# EAGLE library part BGM13P22F512GA-V2 (library wireless_connectivity)
EFR32BG13 Bluetooth 5.0 Module, 512kB Flash, +8dbm
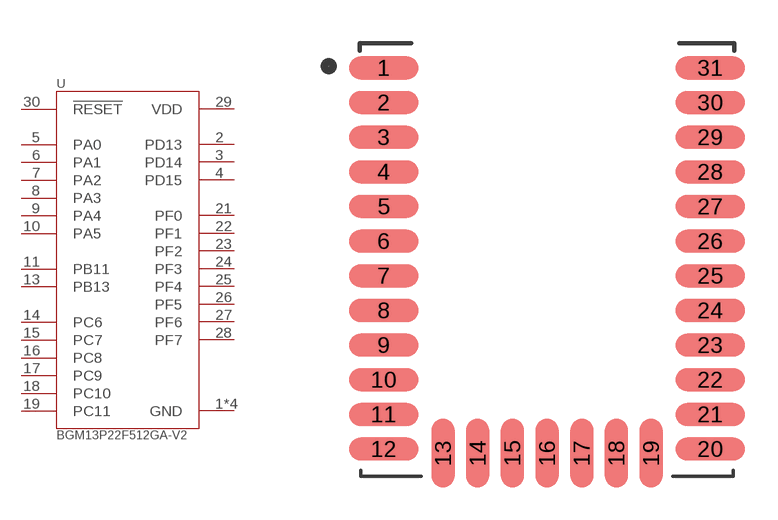
[diagram p1: symbol with the pads of MODULE_BGM13P22F512GA-V2; footprint MODULE_BGM13P22F512GA-V2]

Designator prefix U

## BGM13P22F512GA-V2 (MF: Silicon Labs; MP: BGM13P22F512GA-V2; VALUE: BGM13P22F512GA-V2)  [MODULE_BGM13P22F512GA-V2]
1  GND  pwr
2  PD13
3  PD14
4  PD15
5  PA0
6  PA1
7  PA2
8  PA3
9  PA4
10  PA5
11  PB11
12  GND  pwr
13  PB13
14  PC6
15  PC7
16  PC8
17  PC9
18  PC10
19  PC11
20  GND  pwr
21  PF0
22  PF1
23  PF2
24  PF3
25  PF4
26  PF5
27  PF6
28  PF7
29  VDD  pwr
30  !RESET  in
31  GND  pwr

## Footprint MODULE_BGM13P22F512GA-V2 (pad centres in mm)
smd 2.4 x 0.8: 1 -5.65,6.64; 2 -5.65,5.44; 3 -5.65,4.24; 4 -5.65,3.04; 5 -5.65,1.84; 6 -5.65,0.64; 7 -5.65,-0.56; 8 -5.65,-1.76; 9 -5.65,-2.96; 10 -5.65,-4.16; 11 -5.65,-5.36; 12 -5.65,-6.56; 20 5.65,-6.56; 21 5.65,-5.36; 22 5.65,-4.16; 23 5.65,-2.96; 24 5.65,-1.76; 25 5.65,-0.56; 26 5.65,0.64; 27 5.65,1.84; 28 5.65,3.04; 29 5.65,4.24; 30 5.65,5.44; 31 5.65,6.64
smd 0.8 x 2.4: 13 -3.6,-6.7; 14 -2.4,-6.7; 15 -1.2,-6.7; 16 0,-6.7; 17 1.2,-6.7; 18 2.4,-6.7; 19 3.6,-6.7